# Altium footprint library gps_project_pcb_library.PcbLib: 41 footprints (part 2 of 3)
Each footprint in its own frame and in the unit in brackets; x right, y up, seen from the top. Pads: shape width x height; smd on the part's side, far side on the other; paste and mask are expansions set on the pad; w line width, h text height; cw(c..) or ccw(c..) is an arc to the next point about the centre after c.
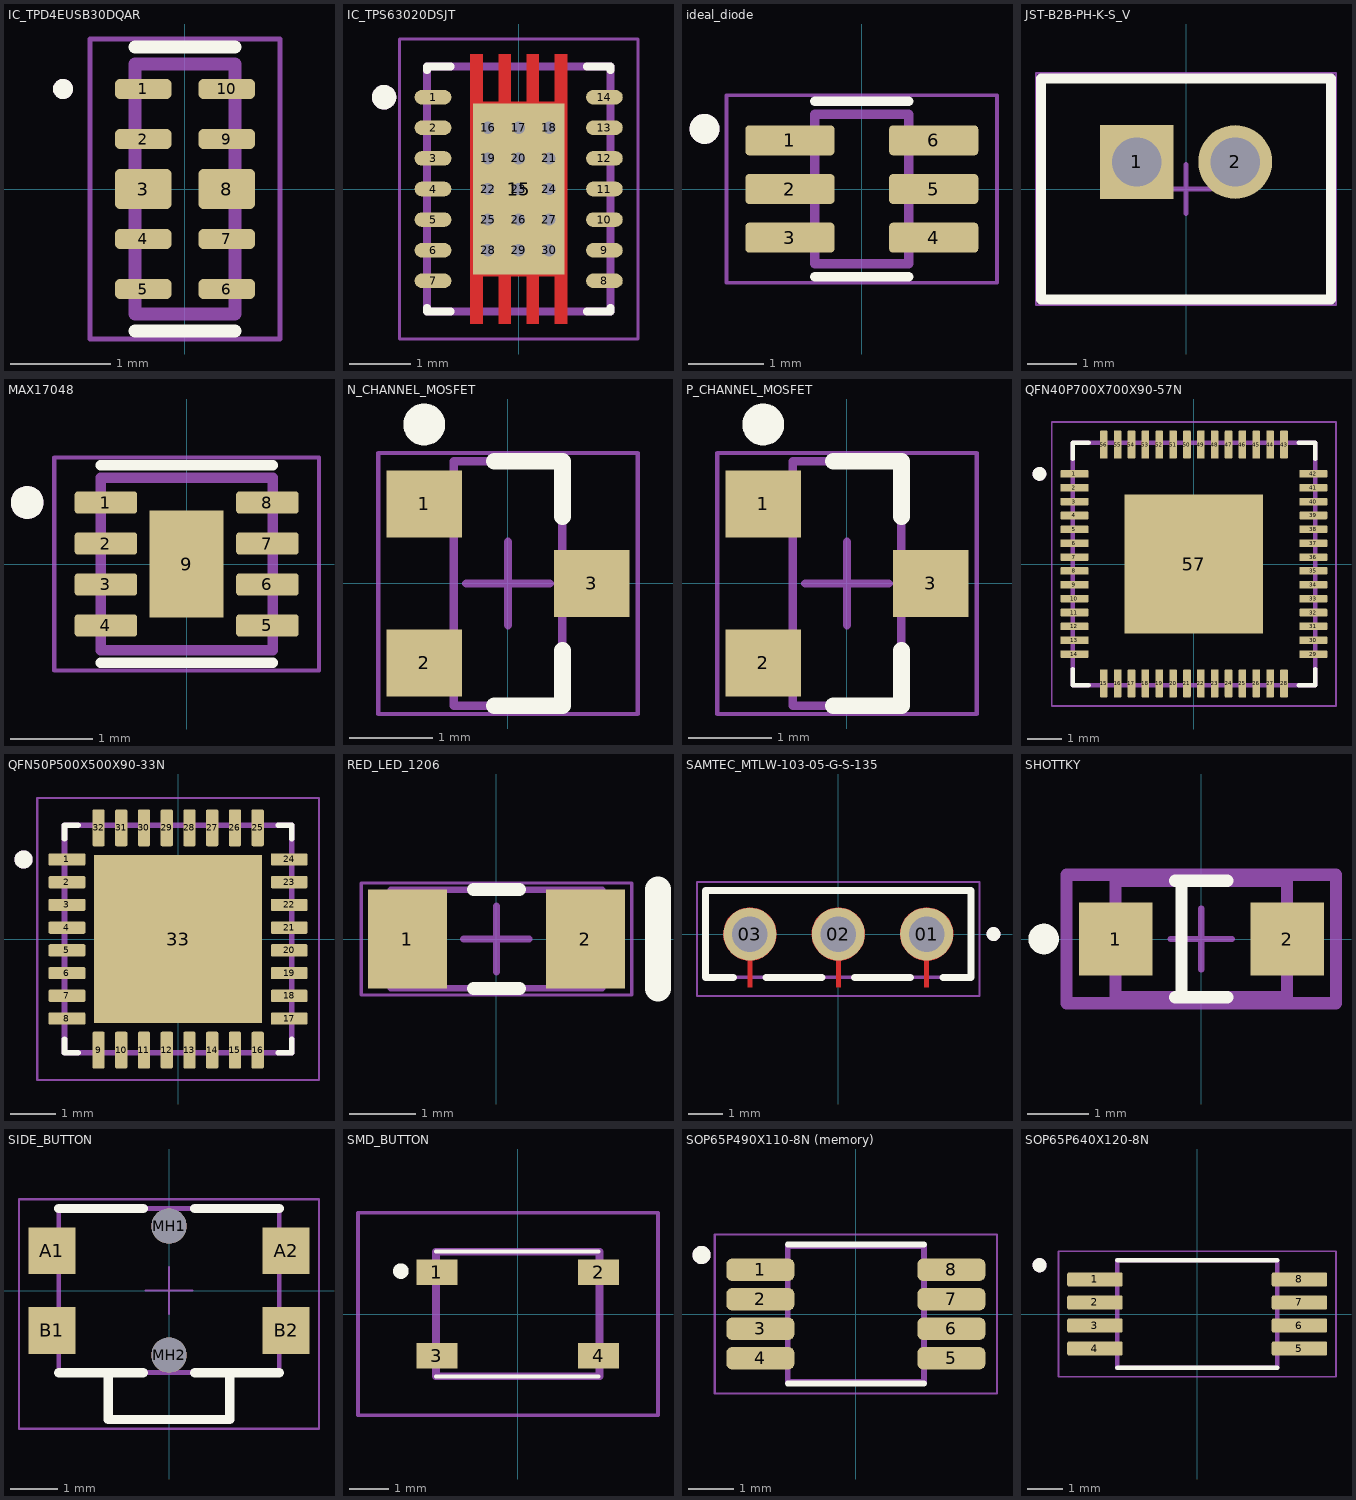
[diagram p1: the footprints below, top view; thin cyan lines are the x and y axes]

## IC_TPD4EUSB30DQAR [mm]
pads (10):
  rrect50% 0.565x0.2 smd mask+0: 1(-0.417,1) 2(-0.417,0.5) 4(-0.417,-0.5) 5(-0.417,-1) 6(0.417,-1) 7(0.417,-0.5) 9(0.417,0.5) 10(0.417,1)
  rrect25% 0.565x0.4 smd paste-1 mask+0: 3(-0.417,0) 8(0.417,0)
Top Overlay:
  circle w0.1: c-1.22,1 r0.05
  lines w0.127: -0.5,-1.42 0.5,-1.42 ; -0.5,1.42 0.5,1.42
Top Paste:
  drawing of 2 lines, arcs and shapes, not listed
Top Solder:
  region: 0.77,-0.27 0.065,-0.27 0.065,0.27 0.77,0.27
  region: -0.065,-0.27 -0.77,-0.27 -0.77,0.27 -0.065,0.27
  region: 0.77,-1.17 0.065,-1.17 0.065,-0.83 0.77,-0.83
  region: 0.77,-0.67 0.065,-0.67 0.065,-0.33 0.77,-0.33
  region: 0.77,0.33 0.065,0.33 0.065,0.67 0.77,0.67
  region: 0.77,0.83 0.065,0.83 0.065,1.17 0.77,1.17
  region: -0.065,-1.17 -0.77,-1.17 -0.77,-0.83 -0.065,-0.83
  region: -0.065,-0.67 -0.77,-0.67 -0.77,-0.33 -0.065,-0.33
  region: -0.065,0.33 -0.77,0.33 -0.77,0.67 -0.065,0.67
  region: -0.065,0.83 -0.77,0.83 -0.77,1.17 -0.065,1.17
Mechanical 13:
  circle w0.1: c-1.22,1 r0.05
  lines w0.127: -0.5,-1.25 -0.5,1.25 0.5,1.25 0.5,-1.25 -0.5,-1.25
Mechanical 15:
  lines w0.05: -0.95,-1.5 -0.95,1.5 0.95,1.5 0.95,-1.5 -0.95,-1.5
3D body "TPD4EUSB30DQAR.STEP": height 0.55, standoff 0, extent -0.5,-1.25 0.5,1.25

## IC_TPS63020DSJT [mm]
height 1
pads (30):
  oval 0.6x0.24 smd mask+0: 1(-1.4,1.5) 2(-1.4,1) 3(-1.4,0.5) 4(-1.4,0) 5(-1.4,-0.5) 6(-1.4,-1) 7(-1.4,-1.5) 8(1.4,-1.5) 9(1.4,-1) 10(1.4,-0.5) 11(1.4,0) 12(1.4,0.5) 13(1.4,1) 14(1.4,1.5)
  rect 1.5x2.8 smd paste-2 mask+0: 15(0,0)
  round 0.3 hole 0.2: 16(-0.5,1) 17(0,1) 18(0.5,1) 19(-0.5,0.5) 20(0,0.5) 21(0.5,0.5) 22(-0.5,0) 23(0,0) 24(0.5,0) 25(-0.5,-0.5) 26(0,-0.5) 27(0.5,-0.5) 28(-0.5,-1) 29(0,-1) 30(0.5,-1)
Top Layer:
  region: 0.79,-2.2 0.59,-2.2 0.59,-1.425 0.33,-1.425 0.33,-2.2 0.13,-2.2 0.13,-1.425 -0.13,-1.425 -0.13,-2.2 -0.33,-2.2 -0.33,-1.425 -0.59,-1.425 -0.59,-2.2 -0.79,-2.2 -0.79,2.2 -0.59,2.2 -0.59,1.425 -0.33,1.425 -0.33,2.2 -0.13,2.2 -0.13,1.425 0.13,1.425 0.13,2.2 0.33,2.2 0.33,1.425 0.59,1.425 0.59,2.2 0.79,2.2
Top Overlay:
  circle w0.2: c-2.2,1.5 r0.1
  lines w0.127: -1.5,-1.94 -1.5,-2 -1.11,-2 ; -1.5,1.94 -1.5,2 -1.11,2 ; 1.11,-2 1.5,-2 1.5,-1.94 ; 1.11,2 1.5,2 1.5,1.94
Top Paste:
  region: -0.13,-2.2 -0.33,-2.2 -0.33,-1.35 -0.59,-1.35 -0.59,-2.2 -0.79,-2.2 -0.79,-0.1 -0.13,-0.1
  region: 0.79,-2.2 0.59,-2.2 0.59,-1.35 0.33,-1.35 0.33,-2.2 0.13,-2.2 0.13,-0.1 0.79,-0.1
  region: 0.79,0.1 0.13,0.1 0.13,2.2 0.33,2.2 0.33,1.35 0.59,1.35 0.59,2.2 0.79,2.2
  region: -0.13,0.1 -0.79,0.1 -0.79,2.2 -0.59,2.2 -0.59,1.35 -0.33,1.35 -0.33,2.2 -0.13,2.2
Top Solder:
  drawing of 15 lines, arcs and shapes, not listed
Mechanical 13:
  circle w0.2: c-2.2,1.5 r0.1
  lines w0.127: -1.5,-2 -1.5,2 1.5,2 1.5,-2 -1.5,-2
Mechanical 15:
  lines w0.05: -1.95,-2.45 -1.95,2.45 1.95,2.45 1.95,-2.45 -1.95,-2.45
3D body "step_temp.STEP": height 1, standoff 0, extent -1.5,-2 1.5,2

## ideal_diode [mm]
height 1.1
pads (6):
  rrect25% 1.19x0.4 smd: 1(-0.96,0.65) 2(-0.96,0) 3(-0.96,-0.65) 4(0.96,-0.65) 5(0.96,0) 6(0.96,0.65)
Top Overlay:
  circle w0.2: c-2.1,0.802 r0.1
  lines w0.127: -0.625,-1.17 0.625,-1.17 ; -0.625,1.17 0.625,1.17
Mechanical 13:
  circle w0.2: c-2.1,0.802 r0.1
  lines w0.127: -0.625,-1 -0.625,1 0.625,1 0.625,-1 -0.625,-1
Mechanical 15:
  lines w0.05: -1.805,-1.25 -1.805,1.25 1.805,1.25 1.805,-1.25 -1.805,-1.25
3D body "step_temp.STEP": height 1.1, standoff 0, extent -1.05,-1 1.05,1

## JST-B2B-PH-K-S_V [mm] "Connector, 2-Leads, Body 5.9x4.5mm, Pitch 2mm"
height 6
pads (2):
  rect 1.5x1.5 hole 1: 1(-1,0.55)
  round 1.5 hole 1: 2(1,0.55)
Top Overlay:
  lines w0.2: -2.95,-2.25 -2.95,2.25 2.95,2.25 2.95,-2.25 -2.95,-2.25
Mechanical 13:
  lines w0.1: -2.95,-2.25 2.95,-2.25 2.95,2.25 -2.95,2.25 -2.95,-2.25
Mechanical 15:
  lines w0.05: -3.05,-2.35 3.05,-2.35 3.05,2.35 -3.05,2.35 -3.05,-2.35
  lines w0.1: -0.5,0 0.5,0 ; 0,-0.5 0,0.5
3D body: height 0, standoff -3.4, extent 0.75,0.301 1.249,0.8
3D body: height 0, standoff -3.4, extent -1.249,0.301 -0.751,0.799
3D body: height 6, standoff 0, extent -2.949,-2.249 2.949,2.249

## MAX17048 [mm]
pads (9):
  rrect25% 0.76x0.27 smd: 1(-0.985,0.75) 2(-0.985,0.25) 3(-0.985,-0.25) 4(-0.985,-0.75) 5(0.985,-0.75) 6(0.985,-0.25) 7(0.985,0.25) 8(0.985,0.75)
  rect 0.9x1.3 smd paste-2: 9(0,0)
Top Overlay:
  circle w0.2: c-1.945,0.75 r0.1
  lines w0.127: -1.05,-1.205 1.05,-1.205 ; -1.05,1.205 1.05,1.205
Top Paste:
  region: 0.28,-0.41 -0.28,-0.41 -0.28,0.41 0.28,0.41
Mechanical 13:
  circle w0.2: c-1.945,0.75 r0.1
  lines w0.127: -1.05,-1.05 1.05,-1.05 1.05,1.05 -1.05,1.05 -1.05,-1.05
Mechanical 15:
  lines w0.05: -1.615,-1.3 1.615,-1.3 1.615,1.3 -1.615,1.3 -1.615,-1.3
3D body "step_temp.STEP": height 0.8, standoff 0, extent -1,-1 1,1

## N_CHANNEL_MOSFET [mm] "SOT23, 3-Leads, Body 2.92x1.3mm, Pitch 0.95mm"
height 1.11
pads (3):
  rect 0.9x0.8 smd: 1(-1,0.95) 2(-1,-0.95) 3(1,0)
Top Overlay:
  circle w0.25: c-1,1.9 r0.125
  lines w0.2: -0.165,-1.46 0.65,-1.46 0.65,-0.8 ; -0.165,1.46 0.65,1.46 0.65,0.8
Mechanical 13:
  lines w0.1: -0.65,-1.46 0.65,-1.46 0.65,1.46 -0.65,1.46 -0.65,-1.46
Mechanical 15:
  lines w0.05: -1.55,-1.56 1.55,-1.56 1.55,1.56 -1.55,1.56 -1.55,-1.56
  lines w0.1: -0.5,0 0.5,0 ; 0,-0.5 0,0.5
3D body: height 1.11, standoff 0.01, extent -0.65,-1.46 0.65,1.46

## P_CHANNEL_MOSFET [mm] "SOT23, 3-Leads, Body 2.92x1.3mm, Pitch 0.95mm"
height 1.11
pads (3):
  rect 0.9x0.8 smd: 1(-1,0.95) 2(-1,-0.95) 3(1,0)
Top Overlay:
  circle w0.25: c-1,1.9 r0.125
  lines w0.2: -0.165,-1.46 0.65,-1.46 0.65,-0.8 ; -0.165,1.46 0.65,1.46 0.65,0.8
Mechanical 13:
  lines w0.1: -0.65,-1.46 -0.65,1.46 0.65,1.46 0.65,-1.46 -0.65,-1.46
Mechanical 15:
  lines w0.05: -1.55,-1.56 -1.55,1.56 1.55,1.56 1.55,-1.56 -1.55,-1.56
  lines w0.1: -0.5,0 0.5,0 ; 0,-0.5 0,0.5
3D body: height 1.11, standoff 0.01, extent -0.65,-1.46 0.65,1.46

## QFN40P700X700X90-57N [mm]
pads (57):
  rrect25% 0.81x0.22 smd: 1(-3.445,2.6) 2(-3.445,2.2) 3(-3.445,1.8) 4(-3.445,1.4) 5(-3.445,1) 6(-3.445,0.6) 7(-3.445,0.2) 8(-3.445,-0.2) 9(-3.445,-0.6) 10(-3.445,-1) 11(-3.445,-1.4) 12(-3.445,-1.8) 13(-3.445,-2.2) 14(-3.445,-2.6) 29(3.445,-2.6) 30(3.445,-2.2) 31(3.445,-1.8) 32(3.445,-1.4) 33(3.445,-1) 34(3.445,-0.6) 35(3.445,-0.2) 36(3.445,0.2) 37(3.445,0.6) 38(3.445,1) 39(3.445,1.4) 40(3.445,1.8) 41(3.445,2.2) 42(3.445,2.6)
  rrect25% 0.22x0.81 smd: 15(-2.6,-3.445) 16(-2.2,-3.445) 17(-1.8,-3.445) 18(-1.4,-3.445) 19(-1,-3.445) 20(-0.6,-3.445) 21(-0.2,-3.445) 22(0.2,-3.445) 23(0.6,-3.445) 24(1,-3.445) 25(1.4,-3.445) 26(1.8,-3.445) 27(2.2,-3.445) 28(2.6,-3.445) 43(2.6,3.445) 44(2.2,3.445) 45(1.8,3.445) 46(1.4,3.445) 47(1,3.445) 48(0.6,3.445) 49(0.2,3.445) 50(-0.2,3.445) 51(-0.6,3.445) 52(-1,3.445) 53(-1.4,3.445) 54(-1.8,3.445) 55(-2.2,3.445) 56(-2.6,3.445)
  rect 4x4 smd paste-3: 57(0,0)
Top Overlay:
  circle w0.2: c-4.455,2.6 r0.1
  lines w0.127: -3.5,-3.03 -3.5,-3.5 -3.03,-3.5 ; -3.5,3.03 -3.5,3.5 -3.03,3.5 ; 3.03,-3.5 3.5,-3.5 3.5,-3.03 ; 3.03,3.5 3.5,3.5 3.5,3.03
Top Paste:
  region: -0.245,0.245 -1.515,0.245 -1.515,1.515 -0.245,1.515
  region: 1.515,0.245 0.245,0.245 0.245,1.515 1.515,1.515
  region: 1.515,-1.515 0.245,-1.515 0.245,-0.245 1.515,-0.245
  region: -0.245,-1.515 -1.515,-1.515 -1.515,-0.245 -0.245,-0.245
Mechanical 13:
  circle w0.2: c-4.455,2.6 r0.1
  lines w0.127: -3.5,-3.5 3.5,-3.5 3.5,3.5 -3.5,3.5 -3.5,-3.5
Mechanical 15:
  lines w0.05: -4.1,-4.1 4.1,-4.1 4.1,4.1 -4.1,4.1 -4.1,-4.1
3D body "step_temp.STEP": height 0.9, standoff 0, extent -3.5,-3.5 3.5,3.5

## QFN50P500X500X90-33N [mm]
height 0.9
pads (33):
  rrect25% 0.81x0.27 smd mask+0: 1(-2.445,1.75) 2(-2.445,1.25) 3(-2.445,0.75) 4(-2.445,0.25) 5(-2.445,-0.25) 6(-2.445,-0.75) 7(-2.445,-1.25) 8(-2.445,-1.75) 17(2.445,-1.75) 18(2.445,-1.25) 19(2.445,-0.75) 20(2.445,-0.25) 21(2.445,0.25) 22(2.445,0.75) 23(2.445,1.25) 24(2.445,1.75)
  rrect25% 0.27x0.81 smd mask+0: 9(-1.75,-2.445) 10(-1.25,-2.445) 11(-0.75,-2.445) 12(-0.25,-2.445) 13(0.25,-2.445) 14(0.75,-2.445) 15(1.25,-2.445) 16(1.75,-2.445) 25(1.75,2.445) 26(1.25,2.445) 27(0.75,2.445) 28(0.25,2.445) 29(-0.25,2.445) 30(-0.75,2.445) 31(-1.25,2.445) 32(-1.75,2.445)
  rect 3.7x3.7 smd paste-0.68 mask+0.05: 33(0,0)
Top Overlay:
  circle w0.2: c-3.4,1.75 r0.1
  lines w0.127: -2.5,-2.205 -2.5,-2.5 -2.205,-2.5 ; -2.5,2.205 -2.5,2.5 -2.205,2.5 ; 2.205,-2.5 2.5,-2.5 2.5,-2.205 ; 2.205,2.5 2.5,2.5 2.5,2.205
Top Solder:
  drawing of 32 lines, arcs and shapes, not listed
Mechanical 13:
  circle w0.2: c-3.4,1.75 r0.1
  lines w0.127: -2.5,-2.5 -2.5,2.5 2.5,2.5 2.5,-2.5 -2.5,-2.5
Mechanical 15:
  lines w0.05: -3.1,-3.1 -3.1,3.1 3.1,3.1 3.1,-3.1 -3.1,-3.1
3D body "step_temp.STEP": height 0.9, standoff 0, extent -2.5,-2.5 2.5,2.5

## RED_LED_1206 [mm] "SMD, 2-Leads, Body 3.2x1.5mm"
height 1
pads (2):
  rect 1.2x1.5 smd: 1(-1.35,0) 2(1.35,0)
Top Overlay:
  lines w0.2: -0.35,-0.75 0.35,-0.75 ; -0.35,0.75 0.35,0.75
  lines w0.4: 2.45,-0.75 2.45,0.75
Mechanical 13:
  lines w0.1: -1.6,-0.75 -1.6,0.75 1.6,0.75 1.6,-0.75 -1.6,-0.75
Mechanical 15:
  lines w0.05: -2.05,-0.85 -2.05,0.85 2.05,0.85 2.05,-0.85 -2.05,-0.85
  lines w0.1: -0.5,0 0.5,0 ; 0,-0.5 0,0.5
3D body: height 1.1, standoff 0, extent -1.6,-0.8 1.6,0.8

## SAMTEC_MTLW-103-05-G-S-135 [mm]
pads (3):
  round 1.52 hole 1.02 mask+0.102: 01(2.54,0) 02(0,0) 03(-2.54,0)
Top Layer:
  region: 2.619,0.756 2.698,0.743 2.775,0.723 2.849,0.694 2.92,0.658 2.987,0.615 3.049,0.565 3.105,0.509 3.155,0.447 3.198,0.38 3.234,0.309 3.263,0.235 3.283,0.158 3.296,0.079 3.3,0 3.299,-0.038 3.296,-0.076 3.292,-0.113 3.285,-0.151 3.277,-0.187 3.267,-0.224 3.255,-0.259 3.241,-0.294 3.226,-0.329 3.209,-0.363 3.19,-0.395 3.17,-0.427 3.148,-0.458 3.125,-0.487 3.1,-0.516 3.074,-0.543 3.046,-0.569 3.017,-0.593 2.988,-0.616 2.957,-0.638 2.925,-0.658 2.892,-0.676 2.858,-0.692 2.823,-0.707 2.788,-0.721 2.752,-0.732 2.716,-0.742 2.679,-0.75 2.642,-0.756 2.605,-0.76 2.605,-1.53 2.475,-1.53 2.475,-0.76 2.438,-0.756 2.401,-0.75 2.364,-0.742 2.328,-0.732 2.292,-0.721 2.257,-0.707 2.222,-0.692 2.188,-0.676 2.155,-0.658 2.123,-0.638 2.092,-0.616 2.063,-0.593 2.034,-0.569 2.006,-0.543 1.98,-0.516 1.955,-0.487 1.932,-0.458 1.91,-0.427 1.89,-0.395 1.871,-0.363 1.854,-0.329 1.839,-0.294 1.825,-0.259 1.813,-0.224 1.803,-0.187 1.795,-0.151 1.788,-0.113 1.784,-0.076 1.781,-0.038 1.78,0 1.784,0.079 1.797,0.158 1.817,0.235 1.846,0.309 1.882,0.38 1.925,0.447 1.975,0.509 2.031,0.565 2.093,0.615 2.16,0.658 2.231,0.694 2.305,0.723 2.382,0.743 2.461,0.756 2.54,0.76
  region: 0.079,0.756 0.158,0.743 0.235,0.723 0.309,0.694 0.38,0.658 0.447,0.615 0.509,0.565 0.565,0.509 0.615,0.447 0.658,0.38 0.694,0.309 0.723,0.235 0.743,0.158 0.756,0.079 0.76,0 0.759,-0.038 0.756,-0.076 0.752,-0.113 0.745,-0.151 0.737,-0.187 0.727,-0.224 0.715,-0.259 0.701,-0.294 0.686,-0.329 0.669,-0.363 0.65,-0.395 0.63,-0.427 0.608,-0.458 0.585,-0.487 0.56,-0.516 0.534,-0.543 0.506,-0.569 0.477,-0.593 0.448,-0.616 0.417,-0.638 0.385,-0.658 0.352,-0.676 0.318,-0.692 0.283,-0.707 0.248,-0.721 0.212,-0.732 0.176,-0.742 0.139,-0.75 0.102,-0.756 0.065,-0.76 0.065,-1.53 -0.065,-1.53 -0.065,-0.76 -0.102,-0.756 -0.139,-0.75 -0.176,-0.742 -0.212,-0.732 -0.248,-0.721 -0.283,-0.707 -0.318,-0.692 -0.352,-0.676 -0.385,-0.658 -0.417,-0.638 -0.448,-0.616 -0.477,-0.593 -0.506,-0.569 -0.534,-0.543 -0.56,-0.516 -0.585,-0.487 -0.608,-0.458 -0.63,-0.427 -0.65,-0.395 -0.669,-0.363 -0.686,-0.329 -0.701,-0.294 -0.715,-0.259 -0.727,-0.224 -0.737,-0.187 -0.745,-0.151 -0.752,-0.113 -0.756,-0.076 -0.759,-0.038 -0.76,0 -0.756,0.079 -0.743,0.158 -0.723,0.235 -0.694,0.309 -0.658,0.38 -0.615,0.447 -0.565,0.509 -0.509,0.565 -0.447,0.615 -0.38,0.658 -0.309,0.694 -0.235,0.723 -0.158,0.743 -0.079,0.756 0,0.76
  region: -2.461,0.756 -2.382,0.743 -2.305,0.723 -2.231,0.694 -2.16,0.658 -2.093,0.615 -2.031,0.565 -1.975,0.509 -1.925,0.447 -1.882,0.38 -1.846,0.309 -1.817,0.235 -1.797,0.158 -1.784,0.079 -1.78,0 -1.781,-0.038 -1.784,-0.076 -1.788,-0.113 -1.795,-0.151 -1.803,-0.187 -1.813,-0.224 -1.825,-0.259 -1.839,-0.294 -1.854,-0.329 -1.871,-0.363 -1.89,-0.395 -1.91,-0.427 -1.932,-0.458 -1.955,-0.487 -1.98,-0.516 -2.006,-0.543 -2.034,-0.569 -2.063,-0.593 -2.092,-0.616 -2.123,-0.638 -2.155,-0.658 -2.188,-0.676 -2.222,-0.692 -2.257,-0.707 -2.292,-0.721 -2.328,-0.732 -2.364,-0.742 -2.401,-0.75 -2.438,-0.756 -2.475,-0.76 -2.475,-1.53 -2.605,-1.53 -2.605,-0.76 -2.642,-0.756 -2.679,-0.75 -2.716,-0.742 -2.752,-0.732 -2.788,-0.721 -2.823,-0.707 -2.858,-0.692 -2.892,-0.676 -2.925,-0.658 -2.957,-0.638 -2.988,-0.616 -3.017,-0.593 -3.046,-0.569 -3.074,-0.543 -3.1,-0.516 -3.125,-0.487 -3.148,-0.458 -3.17,-0.427 -3.19,-0.395 -3.209,-0.363 -3.226,-0.329 -3.241,-0.294 -3.255,-0.259 -3.267,-0.224 -3.277,-0.187 -3.285,-0.151 -3.292,-0.113 -3.296,-0.076 -3.299,-0.038 -3.3,0 -3.296,0.079 -3.283,0.158 -3.263,0.235 -3.234,0.309 -3.198,0.38 -3.155,0.447 -3.105,0.509 -3.049,0.565 -2.987,0.615 -2.92,0.658 -2.849,0.694 -2.775,0.723 -2.698,0.743 -2.619,0.756 -2.54,0.76
Top Overlay:
  circle w0.2: c4.46,0 r0.1
  lines w0.2: -3.005,-1.245 -3.81,-1.245 -3.81,1.245 3.81,1.245 3.81,-1.245 3.005,-1.245 ; -2.075,-1.245 -0.465,-1.245 ; 0.465,-1.245 2.075,-1.245
Top Paste:
  region: 3.62,-0.455 3.16,-0.455 2.795,-0.77 2.795,-1.53 2.285,-1.53 2.285,-0.77 1.92,-0.455 1.46,-0.455 1.46,1.085 3.62,1.085
  region: 1.08,-0.455 0.62,-0.455 0.255,-0.77 0.255,-1.53 -0.255,-1.53 -0.255,-0.77 -0.62,-0.455 -1.08,-0.455 -1.08,1.085 1.08,1.085
  region: -1.46,-0.455 -1.92,-0.455 -2.285,-0.77 -2.285,-1.53 -2.795,-1.53 -2.795,-0.77 -3.16,-0.455 -3.62,-0.455 -3.62,1.085 -1.46,1.085
Top Solder:
  drawing of 3 lines, arcs and shapes, not listed
Mechanical 13:
  circle w0.2: c4.46,0 r0.1
  lines w0.1: -3.81,-1.245 -3.81,1.245 3.81,1.245 3.81,-1.245 -3.81,-1.245
Mechanical 15:
  lines w0.05: -4.06,-1.78 -4.06,1.495 4.06,1.495 4.06,-1.78 -4.06,-1.78
3D body "MTLW-103-05-G-S-135_body.sldprt": height 1.52, standoff 0, extent -3.81,-1.245 3.81,1.245
3D body "MTLW-03-05-S-135.sldprt": height 5.51, standoff -3, extent -2.984,-0.445 2.984,0.445

## SHOTTKY [mm]
pads (2):
  rect 1.2x1.2 smd paste-1000 mask+0: 1(-1.4,0) 2(1.4,0)
Top Overlay:
  circle w0.25: c-2.575,0 r0.125
  lines w0.2: -0.425,-0.95 0.425,-0.95 ; -0.425,0.95 0.425,0.95 ; -0.325,-0.85 -0.325,0.85
Top Paste:
  rectangle: 0.85,-0.55 1.95,0.55
  rectangle: -1.95,-0.55 -0.85,0.55
Top 3D Body:
  lines w0.2: -1.4,-0.95 -1.4,0.95 1.4,0.95 1.4,-0.95 -1.4,-0.95
Top Courtyard:
  lines w0.2: -2.2,-1.05 -2.2,1.05 2.2,1.05 2.2,-1.05 -2.2,-1.05
Top Assembly:
  lines w0.2: -2.2,-1.05 -2.2,1.05 2.2,1.05 2.2,-1.05 -2.2,-1.05
  text ".Designator" at 0,-0.001 h1
Top Component Center:
  lines w0.1: -0.5,0 0.5,0 ; 0,-0.5 0,0.5
3D body "Diode_Nexperia_PMEG3010BER_115_eec.STEP": height 0.25, standoff 0, extent -2.2,-1.05 2.2,1.05

## SIDE_BUTTON [mm] "3.5x4.7 mm SMD J-Bend side push"
height 1.65
pads (6):
  rect 1x1 smd: A1(-2.5,0.85) A2(2.5,0.85) B1(-2.5,-0.85) B2(2.5,-0.85)
  round 0.75 hole 0.75 unplated: MH1(0,1.375) MH2(0,-1.375)
Top Overlay:
  lines w0.2: -2.35,-1.75 -0.55,-1.75 ; -2.35,1.75 -0.55,1.75 ; -1.3,-1.75 -1.3,-2.75 1.3,-2.75 1.3,-1.75 ; 0.55,-1.75 2.35,-1.75 ; 0.55,1.75 2.35,1.75
Top 3D Body:
  lines w0.1: -1.3,-1.75 -1.3,-2.75 1.3,-2.75 1.3,-1.75 ; -2.35,-1.75 2.35,-1.75 2.35,1.75 -2.35,1.75 -2.35,-1.75
Top Courtyard:
  lines w0.05: -0.5,0 0.5,0 ; 0,-0.5 0,0.5 ; -3.2,-2.95 -3.2,1.95 3.2,1.95 3.2,-2.95 -3.2,-2.95
Top Designator:
  text ".Designator" at -5.998,-0.4 h1.2
Top Component Outline:
  lines w0.1: -1.3,-1.75 -1.3,-2.75 1.3,-2.75 1.3,-1.75 ; -2.35,-1.75 -2.35,1.75 2.35,1.75 2.35,-1.75 -2.35,-1.75
3D body "4363x30458xx.stp": height 1.65, standoff -0.5, extent -2.75,-2.75 2.75,1.75

## SMD_BUTTON [mm]
pads (4):
  rect 1.05x0.65 smd: 1(-2.075,1.075) 2(2.075,1.075) 3(-2.075,-1.075) 4(2.075,-1.075)
Top Overlay:
  lines w0.1: -2.1,-1.6 2.075,-1.6 ; -2.1,1.6 2.075,1.6
  lines w0.2: -3,1 cw(c-3,1.1) -3,1.2 cw(c-3,1.1) -3,1
Mechanical 13:
  lines w0.1: -4.1,-2.6 -4.1,2.6 3.6,2.6 3.6,-2.6 -4.1,-2.6
  lines w0.2: -2.1,-1.6 -2.1,1.6 2.1,1.6 2.1,-1.6 -2.1,-1.6
3D body "step_temp.STEP": height 2.7, standoff 0, extent -2.3,-1.6 2.3,1.6

## SOP65P490X110-8N (memory) [mm]
pads (8):
  rrect50% 1.5x0.49 smd: 1(-2.105,0.975) 2(-2.105,0.325) 3(-2.105,-0.325) 4(-2.105,-0.975) 5(2.105,-0.975) 6(2.105,-0.325) 7(2.105,0.325) 8(2.105,0.975)
Top Overlay:
  circle w0.2: c-3.4,1.3 r0.1
  lines w0.127: -1.5,-1.534 1.5,-1.534 ; -1.5,1.534 1.5,1.534
Mechanical 13:
  circle w0.2: c-3.4,1.3 r0.1
  lines w0.127: -1.5,-1.5 1.5,-1.5 1.5,1.5 -1.5,1.5 -1.5,-1.5
Mechanical 15:
  lines w0.05: -3.11,-1.75 3.11,-1.75 3.11,1.75 -3.11,1.75 -3.11,-1.75
3D body "step_temp.STEP": height 1.1, standoff 0, extent -2.45,-1.5 2.45,1.5

## SOP65P640X120-8N [mm]
height 1.2
pads (8):
  rrect25% 1.56x0.4 smd: 1(-2.88,0.975) 2(-2.88,0.325) 3(-2.88,-0.325) 4(-2.88,-0.975) 5(2.88,-0.975) 6(2.88,-0.325) 7(2.88,0.325) 8(2.88,0.975)
Top Overlay:
  circle w0.2: c-4.44,1.375 r0.1
  lines w0.127: -2.25,-1.515 2.25,-1.515 ; -2.25,1.515 2.25,1.515
Mechanical 13:
  circle w0.2: c-4.44,1.375 r0.1
  lines w0.127: -2.25,-1.515 -2.25,1.515 2.25,1.515 2.25,-1.515 -2.25,-1.515
Mechanical 15:
  lines w0.05: -3.91,-1.765 -3.91,1.765 3.91,1.765 3.91,-1.765 -3.91,-1.765
3D body "step_temp.STEP": height 1.2, standoff 0, extent -3.2,-1.465 3.2,1.465